# Altium schematic symbol library Miscelaneous.SchLib: 13 symbols
Pins are listed as number, name and electrical type; pins without a type are passive.

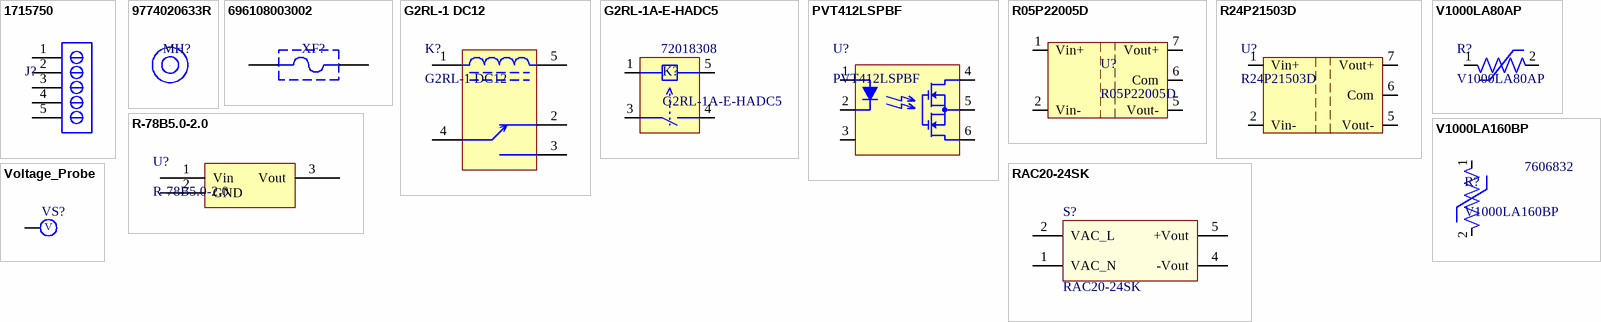
[diagram p0: symbols 1715750 to Voltage_Probe]

## 1715750
designator J?  (value not drawn)
Phoenix Contact MKDS 1.5/ 5-5.08, 5 Way PCB Terminal Block; Current Rating: 17.5A; Voltage Rating: 400V; Number of Levels: 1; Number of Positions Per Level: 5; Current: 15A; Voltage: 300V; Connector Type: Screw; Wire Gauge (Max): 30AWG; Wire Gauge (Min): 14AWG; Pitch: 0.2inch; Supplier 1: Digi-Key; Manufacturer: Phoenix Contact; Manufacturer Part Number: 1715750; RoHS: Yes; Category: Terminal Blocks; Stock 1: 212; Pricing 1: 1=3.30000, 10=3.16400, 50=3.02620, 100=2.94360, 250=2.75100, 500=2.53092, 1000=2.33834, 2500=2.22832, 5000=2.09077 (USD); Mount: Through Hole; Number of Pins: 5; Weight: 1.269863oz; Contact Material: Tin; Color: Green; Housing Color: Green; Housing Material: Nylon; Package Quantity: 50; Packaging: Bulk; Termination: Screw; Number of Positions: 5; Length: 9.8mm; Height: 17.3mm; Width: 27.94mm; ComponentLink1URL: https://datasheet.ciiva.com/26340/788258-da-01-en-printklemme-1715750-250-st-26340992.pdf?src-supplier=Conrad; ComponentLink1Description: https://datasheet.ciiva.com/26340/788258-da-01-en-printklemme-1715750-250-st-26340992.pdf?src-supplier=Conrad; Supplier Part Number 1: 277-13762-ND
footprint SHDR5W110P0X500_1X5_2532X980X1380P
pins: 1, 2, 3, 4, 5

## 9774020633R
designator MH?  (value not drawn)
Manufacturer: Wurth Electronics; Supplier 1: Digi-Key; Manufacturer Part Number: 9774020633R; RoHS: No; Category: Spacers, Standoffs; Stock 1: 4105; Pricing 1: 1=0.96000, 10=0.87700, 50=0.78160, 100=0.68590, 500=0.63800, 1000=0.59015 (USD); Supplier Part Number 1: 732-13689-1-ND
footprint 9774020633R (SMT STEEL SPACER, M1.6 INTERNAL)
pins: 1

## 696108003002
designator XF?  (value not drawn)
FUSEHOLDER BLOCKS - PCB - CLIP C; Manufacturer: Wurth Electronics; Fuse Current: 10A; Voltage Rating (AC): 250V; Number of Circuits: 1; Current Rating: 20A; Supplier 1: Digi-Key; Manufacturer Part Number: 696108003002; RoHS: No; Category: Fuse Holders; Stock 1: 2780; Pricing 1: 1=0.64000, 10=0.60500, 50=0.57460, 100=0.51300, 250=0.45144, 500=0.36936 (USD); Mount: PCB; Contact Material: Copper Alloy; Contact Plating: Tin; Voltage: 250V; Orientation: Horizontal; Termination: PC Pin; REACH SVHC: Unknown; ComponentLink1URL: http://www.farnell.com/cad/1897313.pdf?src-supplier=Element14; ComponentLink1Description: http://www.farnell.com/cad/1897313.pdf?src-supplier=Element14; ComponentLink2URL: https://katalog.we-online.de/em/datasheet/696108003002.pdf?src-supplier=Digi-Key; ComponentLink2Description: https://katalog.we-online.de/em/datasheet/696108003002.pdf?src-supplier=Digi-Key; Supplier Part Number 1: 732-11376-ND
pins: 1, 2

## G2RL-1 DC12
designator K?
General Purpose Relay SPDT (1 Form C) 12VDC Coil Through Hole; Contact Current: 12 A; Contact Form: SPDT; Coil Voltage: 12 VDC; Supplier 1: Digi-Key; Supplier 2: Mouser; Supplier 3: Arrow; Supplier 4: Newark; Supplier Part Number 3: G2RL-2-DC12; Supplier Part Number 2: 653-G2RL-2-DC12; Supplier Part Number 1: Z2926-ND; Supplier Part Number 4: 36M5443
footprint G2RL-1 DC12 (General Purpose Relay SPDT (1 Form C) 12VDC Coil Through Hole)
pins: 1, 2, 3, 4, 5

## G2RL-1A-E-HADC5
designator K?  Supplier Part Number 1: 72018308
General Purpose Relays PCB Power Relay Low Profile 16A SPST-NO 5V coil voltage; Manufacturer: Omron; Relay Contact Form: 1 form A (SPST-NO); Switching Voltage: 440VAC; 300VDC; Coil Current: 80 mA; Coil Voltage: 5 VDC; Power Consumption: 400 mW; Supplier 1: Allied Electronics; Manufacturer Part Number: G2RL-1A-E-HADC5; RoHS: No; Pricing 1: 100=2,510000 (USD); Contact Current: 16 A
footprint G2RL-1A-E-HA DC5 (General Purpose Relays PCB Power Relay Low Profile 16A)
pins: 1, 3, 4, 5

## PVT412LSPBF
designator U?
IC RELAY PHOTOVO 400V 120MA 6SMD; Manufacturer: International Rectifier; Max Input Current: 25mA; Throw Configuration: SPST,SP; Isolation Voltage: 4kV; On-State Resistance: 35R; Turn-On Delay Time: 2ms; Approvals: UL; Manufacturer Part Number: PVT412LSPBF; RoHS: Yes; Category: Solid State Relays; Stock 1: 335; Pricing 1: 1=3,23000, 10=3,03100, 25=2,69480, 50=2,55980, 100=2,42510, 250=2,15568, 500=2,02096, 1000=1,88622, 5000=1,81886 (USD); Mount: Surface Mount; Case/Package: SMD/SMT; Number of Pins: 6; Min Operating Temperature: -40°C; Max Operating Temperature: 85°C; Max Output Voltage: 400V; Packaging: Rail/Tube; Input Current: 25mA; Load Current: 120mA; Termination: Gull Wing; Output Current: 120mA; Package Quantity: 50; Relay Type: Relay; Output Voltage: 400V; Length: 8.63mm; Height: 3.42mm; Depth: 6.47mm; Radiation Hardening: No; Lead Free: Lead Free; ComponentLink1URL: https://datasheet.ciiva.com/15141/getdatasheetpartid-385077-15141601.pdf?src-supplier=Verical; ComponentLink1Description: https://datasheet.ciiva.com/15141/getdatasheetpartid-385077-15141601.pdf?src-supplier=Verical; ComponentLink2URL: https://datasheet.ciiva.com/26924/pvt412lspbf-26924616.pdf?src-supplier=IIIC; ComponentLink2Description: https://datasheet.ciiva.com/26924/pvt412lspbf-26924616.pdf?src-supplier=IIIC; ComponentLink3URL: https://datasheet.ciiva.com/17305/pvt412-17305893.pdf?src-supplier=Avnet+Europe; ComponentLink3Description: https://datasheet.ciiva.com/17305/pvt412-17305893.pdf?src-supplier=Avnet+Europe; ComponentLink4URL: https://datasheet.ciiva.com/2421/pvt412-2421789.pdf?src-supplier=Digi-Key; ComponentLink4Description: https://datasheet.ciiva.com/2421/pvt412-2421789.pdf?src-supplier=Digi-Key; Supplier 1: Digi-Key; Supplier 2: Arrow; Supplier 3: Avnet; Supplier 4: Mouser; Supplier 5: Farnell; Supplier Part Number 5: 2762281; Supplier Part Number 4: 942-PVT412LSPBF; Supplier Part Number 3: PVT412LSPBF; Supplier Part Number 2: PVT412LSPBF; Supplier Part Number 1: PVT412LSPBF-ND
footprint SOP254P980X318-6M-PVT412LSPBF (SOP, 6-Leads, Body 8,38x6,35mm, Pitch 2,54mm, IPC Low Density - PVT412LSPBF SS-relay)
pins: 1, 2, 3, 4, 5, 6

## R05P22005D
designator U?
2W DC/DC-Converter 'ECONOLINE' SIP7 6.4kV unreg; V. In: 05; V. Out: +20/-05; mA. Out: 50/-200; Manufacturer: Recom; Max Output Voltage: 20V; Number of Outputs: 2; Min Input Voltage: 4.5V; Max Input Voltage: 5.5V; Voltage - Output 2: -5V; Max Output Current: 200mA; Isolation Voltage: 5.2kV; Efficiency: 82%; Current - Output 1: 50A; Current - Output 2: 200A; Manufacturer Part Number: R05P22005D; RoHS: Yes; Category: Voltage Regulators - Switching; Stock 1: 233; Pricing 1: 1=6,98000, 5=6,88200, 10=6,78300, 25=6,58360, 50=6,38400, 100=6,18450, 250=5,98500, 500=5,58600 (USD); Mount: Through Hole; Case/Package: SIP; Weight: 4.3g; Min Operating Temperature: -40°C; Max Operating Temperature: 95°C; Max Power Dissipation: 2W; Packaging: Rail/Tube; Voltage - Output 1: 20V; Min Input Voltage (DC): 4.5V; Max Input Voltage (DC): 5.5V; Max Output Power: 2W; Length: 19.5mm; Height: 12.5mm; Width: 9.8mm; Depth: 9.8mm; Lead Free: Lead Free; REACH SVHC: No SVHC; ComponentLink1URL: https://www.recom-power.com/pdf/Econoline/RxxP2xxyy.pdf?src-supplier=Digi-Key; ComponentLink1Description: https://www.recom-power.com/pdf/Econoline/RxxP2xxyy.pdf?src-supplier=Digi-Key; ComponentLink2URL: http://www.farnell.com/datasheets/2145033.pdf?src-supplier=Element14; ComponentLink2Description: http://www.farnell.com/datasheets/2145033.pdf?src-supplier=Element14; Supplier 1: Digi-Key; Supplier 2: Mouser; Supplier 3: Farnell; Supplier Part Number 3: 2630901; Supplier Part Number 2: 919-R05P22005D; Supplier Part Number 1: 945-2622-ND
footprint SIP-7_R05P22005D (Isolated Module DC DC Converter 2 Output 20V -5V 50mA, 200mA 4.5V - 5.5V Input)
pins: 1 Vin+, 2 Vin-, 5 Vout-, 6 Com, 7 Vout+

## R24P21503D
designator U?
2W DC/DC-Converter 'ECONOLINE' SIP7 6.4kV unreg; V. In: 24; V. Out: +15/-03; mA. Out: +93/-185; Manufacturer: Recom; Max Output Voltage: 15V; Manufacturer Part Number: R24P21503D; RoHS: No; Category: Voltage Regulators - Switching; Stock 1: 358; Pricing 1: 1=8,88000, 5=8,71200, 10=8,64500, 25=8,51200, 50=8,24600, 100=7,61000, 250=7,31500, 500=7,18200 (USD); Weight: 4.3g; Length: 19.5mm; Height: 12.5mm; Width: 9.8mm; Supplier 1: Digi-Key; Supplier 2: RSComponents; Supplier 3: Mouser; Supplier 4: Future Electronics; Supplier 5: Arrow Electronics; Supplier 6: Newark; Supplier Part Number 6: 22AC6462; Supplier Part Number 5: R24P21503D; Supplier Part Number 4: R24P21503D-TUBE; Supplier Part Number 3: 919-R24P21503D; Supplier Part Number 2: 1446041; Supplier Part Number 1: 945-3071-5-ND
footprint SIP-7_R05P22005D (Isolated Module DC DC Converter 2 Output 20V -5V 50mA, 200mA 4.5V - 5.5V Input)
pins: 1 Vin+, 2 Vin-, 5 Vout-, 6 Com, 7 Vout+

## R-78B5.0-2.0
designator U?
DC DC CONVERTER 5V; Manufacturer: Recom; Manufacturer Part Number: R-78B5.0-2.0; RoHS: No; Category: Board Mount Modules; Stock 1: 498; Pricing 1: 1=9,98000, 5=9,79200, 10=9,71800, 25=9,56800, 50=9,26900, 100=8,55000, 250=8,22252, 500=8,07300 (USD); Weight: 4g; Max Output Voltage: 5V; Length: 11.5mm; Height: 17.5mm; Width: 8.5mm; ComponentLink1URL: http://www.farnell.com/datasheets/2787641.pdf?src-supplier=Farnell; ComponentLink1Description: http://www.farnell.com/datasheets/2787641.pdf?src-supplier=Farnell; ComponentLink2URL: http://www.farnell.com/datasheets/2229408.pdf?src-supplier=Farnell; ComponentLink2Description: http://www.farnell.com/datasheets/2229408.pdf?src-supplier=Farnell; ComponentLink3URL: https://www.recom-power.com/pdf/Innoline/R-78Bxx-2.0.pdf?src-supplier=Digi-Key; ComponentLink3Description: https://www.recom-power.com/pdf/Innoline/R-78Bxx-2.0.pdf?src-supplier=Digi-Key; Supplier 1: Digi-Key; Supplier 2: Newark; Supplier 3: Mouser; Supplier 4: RSComponents; Supplier 5: RSComponents; Supplier 6: Farnell; Supplier Part Number 1: 945-3042-ND; Supplier Part Number 2: 11AC9497; Supplier Part Number 3: 919-R-78B5.0-2.0; Supplier Part Number 4: 1392821; Supplier Part Number 5: 1392959; Supplier Part Number 6: 2747528
footprint R-78B5.0-2.0 (Non-Isolated DC/DC Converters 6.5-32Vin 5Vout 2A SIP3)
pins: 1 Vin, 2 GND, 3 Vout

## RAC20-24SK
designator S?
20 Watt 2'' x 1'' Single output 24VDC Regulated SMPS RAC20-24SK; Input Voltage Min: 85 VAC; Input Voltage Max: 264 VAC; Output current: 840 mA; Output Voltage: 24 VDC; Supplier 1: Mouser; Supplier Part Number 1: 919-RAC20-24SK
footprint RAC20-K (RAC20-K SMPS Package)
pins: 1 VAC_N, 2 VAC_L, 4 -Vout, 5 +Vout

## V1000LA80AP
designator R?
Varistors 1000V 130pF; Manufacturer: Littelfuse; Max Voltage Rating (AC): 1kV; Max Voltage Rating (DC): 1.2kV; Number of Circuits: 1; Energy: 220J; Max Surge Current: 4.5kA; Min Varistor Voltage: 1.5kV; Varistor Voltage: 1.8kV; Clamping Voltage: 2.7kV; Clamping Current: 50A; Lead/Base Style: Radial; Manufacturer Part Number: V1000LA80AP; RoHS: Yes; Category: Varistors; Stock 1: 1833; Pricing 1: 1=2,50000, 10=2,26200, 25=2,02000, 100=1,81800, 250=1,61600, 500=1,41400, 1000=1,17160, 2500=1,09080, 5000=1,05040 (USD); Mount: Through Hole,Radial; Min Operating Temperature: -55°C; Max Operating Temperature: 85°C; Packaging: Bulk; Max Varistor Voltage: 1.8kV; Termination: Radial; Package Quantity: 300; Voltage Rating: 1.2kV; Voltage Rating (DC): 1.2kV; Voltage Rating (AC): 1kV; Capacitance: 130pF; Max Output Current: 4.5kA; Current Rating: 4.5kA; Diameter: 14mm; Depth: 10.8mm; Thickness: 10.8mm; Width: 10.8mm; Lead Pitch: 8.5mm; REACH SVHC: Unknown; Lead Free: Lead Free; ComponentLink1URL: https://datasheet.ciiva.com/25604/0900766b81107157-25604568.pdf?src-supplier=RSComponents; ComponentLink1Description: https://datasheet.ciiva.com/25604/0900766b81107157-25604568.pdf?src-supplier=RSComponents; ComponentLink2URL: https://datasheet.ciiva.com/366/littelfuse-mov-la-366032.pdf?src-supplier=Digi-Key; ComponentLink2Description: https://datasheet.ciiva.com/366/littelfuse-mov-la-366032.pdf?src-supplier=Digi-Key; ComponentLink3URL: https://datasheet.ciiva.com/15155/getdatasheetpartid-97401-15155450.pdf?src-supplier=Verical; ComponentLink3Description: https://datasheet.ciiva.com/15155/getdatasheetpartid-97401-15155450.pdf?src-supplier=Verical; ComponentLink4URL: https://datasheet.ciiva.com/16379/la-16379084.pdf?src-supplier=Future+Electronics; ComponentLink4Description: https://datasheet.ciiva.com/16379/la-16379084.pdf?src-supplier=Future+Electronics; ComponentLink5URL: https://datasheet.ciiva.com/8070/482376-8070941.pdf?src-supplier=Element14; ComponentLink5Description: https://datasheet.ciiva.com/8070/482376-8070941.pdf?src-supplier=Element14; ComponentLink6URL: https://datasheet.ciiva.com/4540/littelfuse-mov-la-34212-4540703.pdf?src-supplier=Mouser; ComponentLink6Description: https://datasheet.ciiva.com/4540/littelfuse-mov-la-34212-4540703.pdf?src-supplier=Mouser; Supplier 1: Digi-Key; Supplier 2: Arrow; Supplier 3: Future Electronics; Supplier 4: Mouser; Supplier 5: Farnell; Supplier 6: Newark; Supplier 7: Newark; Supplier Part Number 7: 58K7189; Supplier Part Number 6: 80R8723; Supplier Part Number 5: 1816971; Supplier Part Number 4: 576-V1000LA80AP; Supplier Part Number 3: V1000LA80AP-BOX; Supplier Part Number 1: F3029-ND; Supplier Part Number 2: V1000LA80AP
footprint V1000LA80AP (Varistor 1200V V1000LA80AP)
pins: 1 16, 2 16

## V1000LA160BP
designator R?  Supplier Part Number 1: 7606832
VARISTOR 1.5125KV 6.5KA DISC; Manufacturer: Littelfuse; Number of Circuits: 1; Energy: 360J; Varistor Voltage: 1.6kV; Min Varistor Voltage: 1.425kV; Max Voltage Rating (AC): 1kV; Max Voltage Rating (DC): 1.2kV; Clamping Voltage: 2.42kV; Clamping Current: 100A; Lead/Base Style: Radial; Capacitance: 250pF; Lead Length: 25.4mm; Supplier 1: RSComponents; Manufacturer Part Number: V1000LA160BP; RoHS: Yes; Category: Varistors; Stock 1: 40; Mount: Radial,Through Hole; Min Operating Temperature: -55°C; Max Operating Temperature: 85°C; Max Varistor Voltage: 1.6kV; Max Surge Current: 6.5kA; Packaging: Bulk; Package Quantity: 200; Termination: Radial; Voltage Rating: 1.2kV; Voltage Rating (DC): 1kV; Voltage Rating (AC): 1kV; Max Output Current: 6.5kA; Current Rating: 100A; Diameter: 20mm; Depth: 10.8mm; Thickness: 10.8mm; Lead Pitch: 8.5mm; REACH SVHC: Unknown; Lead Free: Lead Free; ComponentLink1URL: https://datasheet.ciiva.com/25604/0900766b81107157-25604558.pdf?src-supplier=RSComponents; ComponentLink1Description: https://datasheet.ciiva.com/25604/0900766b81107157-25604558.pdf?src-supplier=RSComponents; ComponentLink2URL: https://datasheet.ciiva.com/16213/littelfuse-mov-la-16213256.pdf?src-supplier=Future+Electronics; ComponentLink2Description: https://datasheet.ciiva.com/16213/littelfuse-mov-la-16213256.pdf?src-supplier=Future+Electronics; ComponentLink3URL: https://datasheet.ciiva.com/15155/getdatasheetpartid-65866-15155339.pdf?src-supplier=Verical; ComponentLink3Description: https://datasheet.ciiva.com/15155/getdatasheetpartid-65866-15155339.pdf?src-supplier=Verical; ComponentLink4URL: https://datasheet.ciiva.com/366/littelfuse-mov-la-366044.pdf?src-supplier=Digi-Key; ComponentLink4Description: https://datasheet.ciiva.com/366/littelfuse-mov-la-366044.pdf?src-supplier=Digi-Key
pins: 1 16, 2 16

## Voltage_Probe
designator VS?  (value not drawn)
footprint Voltage Probe
pins: 1
text: V